# EAGLE library part INA219 (library FansElectronics-Modul)
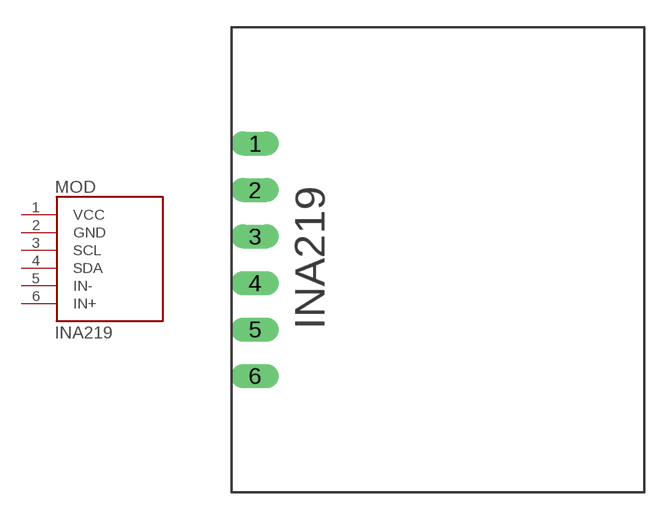
[diagram p39: symbol with the pads of INA219; footprint INA219]

Designator prefix MOD

## INA219  [INA219]
1  VCC  pwr
2  GND  pwr
3  SCL
4  SDA
5  IN-  pwr
6  IN+  pwr

## Footprint INA219 (pad centres in mm)
drill 0.8 long: 1 0,6.35; 2 0,3.81; 3 0,1.27; 4 0,-1.27; 5 0,-3.81; 6 0,-6.35